# Altium footprint library TQFP-100_14x20x065P.PcbLib: 1 footprints
Each footprint in its own frame and in the unit in brackets; x right, y up, seen from the top. Pads: shape width x height; smd on the part's side, far side on the other; paste and mask are expansions set on the pad; w line width, h text height; cw(c..) or ccw(c..) is an arc to the next point about the centre after c.
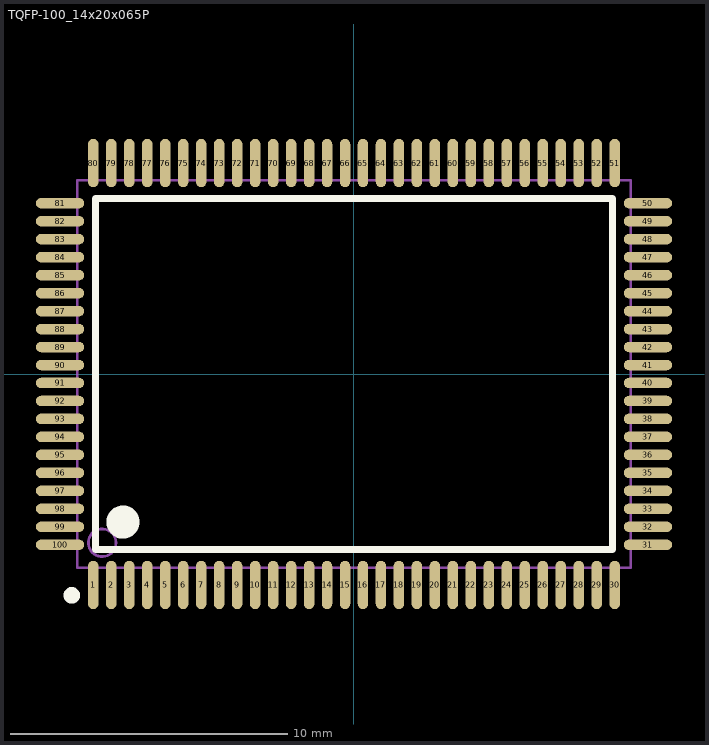
[diagram p0: the footprint, top view; thin cyan lines are the x and y axes]

## TQFP-100_14x20x065P [mm]
pads (100):
  oval 0.38x1.75 smd mask+0.051: 1(-9.425,-7.625) 2(-8.775,-7.625) 3(-8.125,-7.625) 4(-7.475,-7.625) 5(-6.825,-7.625) 6(-6.175,-7.625) 7(-5.525,-7.625) 8(-4.875,-7.625) 9(-4.225,-7.625) 10(-3.575,-7.625) 11(-2.925,-7.625) 12(-2.275,-7.625) 13(-1.625,-7.625) 14(-0.975,-7.625) 15(-0.325,-7.625) 16(0.325,-7.625) 17(0.975,-7.625) 18(1.625,-7.625) 19(2.275,-7.625) 20(2.925,-7.625) 21(3.575,-7.625) 22(4.225,-7.625) 23(4.875,-7.625) 24(5.525,-7.625) 25(6.175,-7.625) 26(6.825,-7.625) 27(7.475,-7.625) 28(8.125,-7.625) 29(8.775,-7.625) 30(9.425,-7.625) 51(9.425,7.625) 52(8.775,7.625) 53(8.125,7.625) 54(7.475,7.625) 55(6.825,7.625) 56(6.175,7.625) 57(5.525,7.625) 58(4.875,7.625) 59(4.225,7.625) 60(3.575,7.625) 61(2.925,7.625) 62(2.275,7.625) 63(1.625,7.625) 64(0.975,7.625) 65(0.325,7.625) 66(-0.325,7.625) 67(-0.975,7.625) 68(-1.625,7.625) 69(-2.275,7.625) 70(-2.925,7.625) 71(-3.575,7.625) 72(-4.225,7.625) 73(-4.875,7.625) 74(-5.525,7.625) 75(-6.175,7.625) 76(-6.825,7.625) 77(-7.475,7.625) 78(-8.125,7.625) 79(-8.775,7.625) 80(-9.425,7.625)
  oval 1.75x0.38 smd mask+0.051: 31(10.625,-6.175) 32(10.625,-5.525) 33(10.625,-4.875) 34(10.625,-4.225) 35(10.625,-3.575) 36(10.625,-2.925) 37(10.625,-2.275) 38(10.625,-1.625) 39(10.625,-0.975) 40(10.625,-0.325) 41(10.625,0.325) 42(10.625,0.975) 43(10.625,1.625) 44(10.625,2.275) 45(10.625,2.925) 46(10.625,3.575) 47(10.625,4.225) 48(10.625,4.875) 49(10.625,5.525) 50(10.625,6.175) 81(-10.625,6.175) 82(-10.625,5.525) 83(-10.625,4.875) 84(-10.625,4.225) 85(-10.625,3.575) 86(-10.625,2.925) 87(-10.625,2.275) 88(-10.625,1.625) 89(-10.625,0.975) 90(-10.625,0.325) 91(-10.625,-0.325) 92(-10.625,-0.975) 93(-10.625,-1.625) 94(-10.625,-2.275) 95(-10.625,-2.925) 96(-10.625,-3.575) 97(-10.625,-4.225) 98(-10.625,-4.875) 99(-10.625,-5.525) 100(-10.625,-6.175)
Top Overlay:
  circle w0.6: c-8.35,-5.35 r0.3
  circle w0.3: c-10.2,-8 r0.15
  lines w0.254: -9.35,-6.35 -9.35,6.35 9.35,6.35 9.35,-6.35 -9.35,-6.35
Mechanical 13:
  circle w0.1: c-9.1,-6.1 r0.5
  lines w0.1: -10,-7 -10,7 10,7 10,-7 -10,-7